# Altium schematic symbol library RFM95W-915S2.SchLib: 2 symbols
Pins are listed as number, name and electrical type; pins without a type are passive.

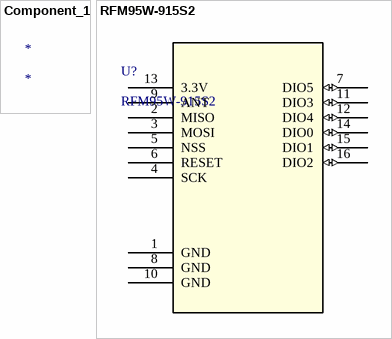
[diagram p0: symbols Component_1 to RFM95W-915S2]

## Component_1
designator *

## RFM95W-915S2
designator U?
No Description Available; Mfr_Name: RF Solutions; Copyright: Copyright (C) 2023 Ultra Librarian. All rights reserved.; Manufacturer_Part_Number: RFM95W-915S2; RefDes: RefDes; Type: DEV
footprint IC16_RFM95W-915S2_RFS
pins: 1 GND, 2 MISO, 3 MOSI, 4 SCK, 5 NSS, 6 RESET, 7 DIO5 (io), 8 GND, 9 ANT, 10 GND, 11 DIO3 (io), 12 DIO4 (io), 13 3.3V, 14 DIO0 (io), 15 DIO1 (io), 16 DIO2 (io)